# EAGLE library part TPS767 (library jt-vreg)
TPS767xx voltage regulators with enable and reset
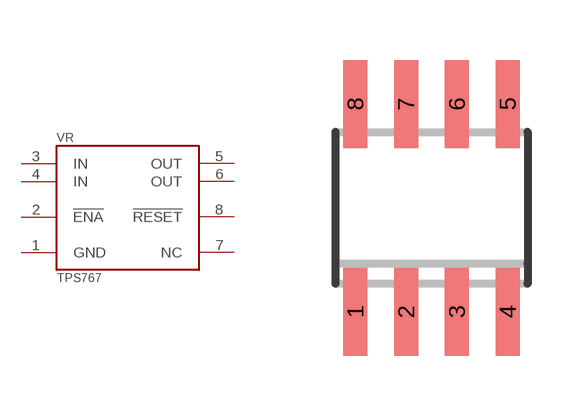
[diagram p0: symbol with the pads of SO-08; footprint SO-08]

Designator prefix VR

## TPS76701, TPS76715, TPS76718, TPS76725, TPS76727, TPS76728, TPS76730, TPS76733, TPS76750  [SO-08]
1  GND  pwr
2  !ENA  in
3  IN  pwr
4  IN  pwr
5  OUT  pwr
6  OUT  pwr
7  NC
8  !RESET  out

## Footprint SO-08 (pad centres in mm)
Small Outline Narrow Plastic Gull Wing 150-mil body, package type SN
smd 0.6 x 2.2: 1 -1.905,-2.6; 2 -0.635,-2.6; 3 0.635,-2.6; 4 1.905,-2.6; 5 1.905,2.6; 6 0.635,2.6; 7 -0.635,2.6; 8 -1.905,2.6